# Altium footprint library rcl.PCBLIB: 489 footprints (part 24 of 31)
Each footprint in its own frame and in the unit in brackets; x right, y up, seen from the top. Pads: shape width x height; smd on the part's side, far side on the other; paste and mask are expansions set on the pad; w line width, h text height; cw(c..) or ccw(c..) is an arc to the next point about the centre after c.
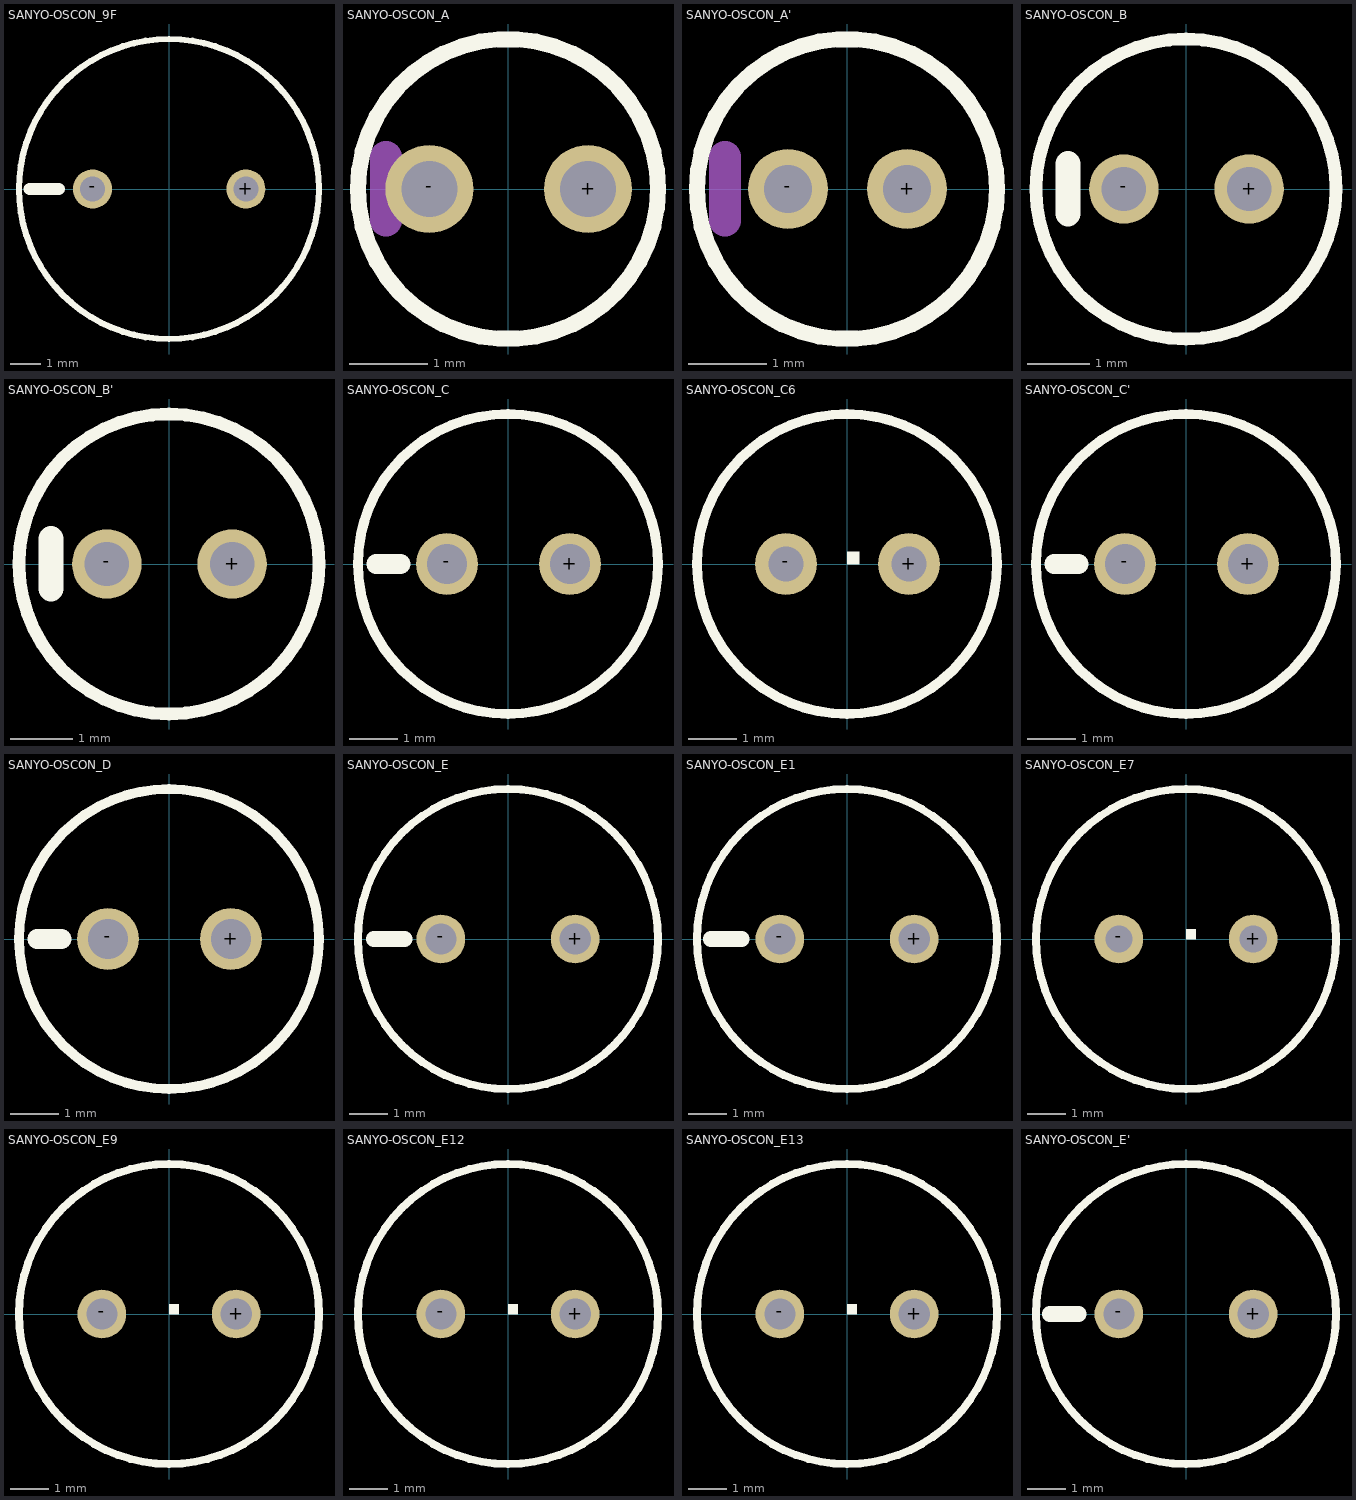
[diagram p23: the footprints below, top view; thin cyan lines are the x and y axes]

## SANYO-OSCON_9F [mil]
pads (2):
  round 50 hole 32: +(99,0) -(-98.43,0)
Top Overlay:
  circle w8: c0,0 r193
  lines w16: -179.13,0 -141.73,0

## SANYO-OSCON_A [mil]
pads (2):
  round 44 hole 28: +(40,0) -(-39.37,0)
Top Overlay:
  circle w8: c0,0 r75
Mechanical 16:
  lines w16: -61.02,-15.75 -61.02,16

## SANYO-OSCON_A' [mil]
pads (2):
  round 40 hole 24: +(30,0) -(-29.53,0)
Top Overlay:
  circle w8: c0,0 r75
Mechanical 16:
  lines w16: -61.02,-15.75 -61.02,16

## SANYO-OSCON_B [mil]
pads (2):
  round 44 hole 28: +(40,0) -(-39.37,0)
Top Overlay:
  circle w8: c0,0 r95
  lines w16: -74.8,-15.75 -74.8,16

## SANYO-OSCON_B' [mil]
pads (2):
  round 44 hole 28: +(40,0) -(-39.37,0)
Top Overlay:
  circle w8: c0,0 r95
  lines w16: -74.8,-15.75 -74.8,16

## SANYO-OSCON_C [mil]
pads (2):
  round 50 hole 32: +(50,0) -(-49.21,0)
Top Overlay:
  circle w8: c0,0 r121
  lines w16: -106.3,0 -86.61,0

## SANYO-OSCON_C6 [mil]
pads (2):
  round 50 hole 28: +(50,0) -(-49.21,0)
Top Overlay:
  circle w8: c0,0 r121
  region: 0,0 10,0 10,10 0,10

## SANYO-OSCON_C' [mil]
pads (2):
  round 50 hole 32: +(50,0) -(-49.21,0)
Top Overlay:
  circle w8: c0,0 r121
  lines w16: -106.3,0 -86.61,0

## SANYO-OSCON_D [mil]
pads (2):
  round 50 hole 32: +(50,0) -(-49.21,0)
Top Overlay:
  circle w8: c0,0 r121
  lines w16: -106.3,0 -86.61,0

## SANYO-OSCON_E [mil]
pads (2):
  round 50 hole 32: +(69,0) -(-68.9,0)
Top Overlay:
  circle w8: c0,0 r154
  lines w16: -137.8,0 -106.3,0

## SANYO-OSCON_E1 [mil]
pads (2):
  round 50 hole 32: +(69,0) -(-68.9,0)
Top Overlay:
  circle w8: c0,0 r154
  lines w16: -139.76,0 -108.27,0

## SANYO-OSCON_E7 [mil]
pads (2):
  round 50 hole 28: +(69,0) -(-68.9,0)
Top Overlay:
  circle w8: c0,0 r154
  region: 0,0 10,0 10,10 0,10

## SANYO-OSCON_E9 [mil]
pads (2):
  round 50 hole 32: +(69,0) -(-68.9,0)
Top Overlay:
  circle w8: c0,0 r154
  region: 0,0 10,0 10,10 0,10

## SANYO-OSCON_E12 [mil]
pads (2):
  round 50 hole 32: +(69,0) -(-68.9,0)
Top Overlay:
  circle w8: c0,0 r154
  region: 0,0 10,0 10,10 0,10

## SANYO-OSCON_E13 [mil]
pads (2):
  round 50 hole 32: +(69,0) -(-68.9,0)
Top Overlay:
  circle w8: c0,0 r154
  region: 0,0 10,0 10,10 0,10

## SANYO-OSCON_E' [mil]
pads (2):
  round 50 hole 32: +(69,0) -(-68.9,0)
Top Overlay:
  circle w8: c0,0 r154
  lines w16: -139.76,0 -110.24,0